# Altium footprint library RHD2000_eval_board.PCBLIB: 44 footprints (part 2 of 3)
Each footprint in its own frame and in the unit in brackets; x right, y up, seen from the top. Pads: shape width x height; smd on the part's side, far side on the other; paste and mask are expansions set on the pad; w line width, h text height; cw(c..) or ccw(c..) is an arc to the next point about the centre after c.
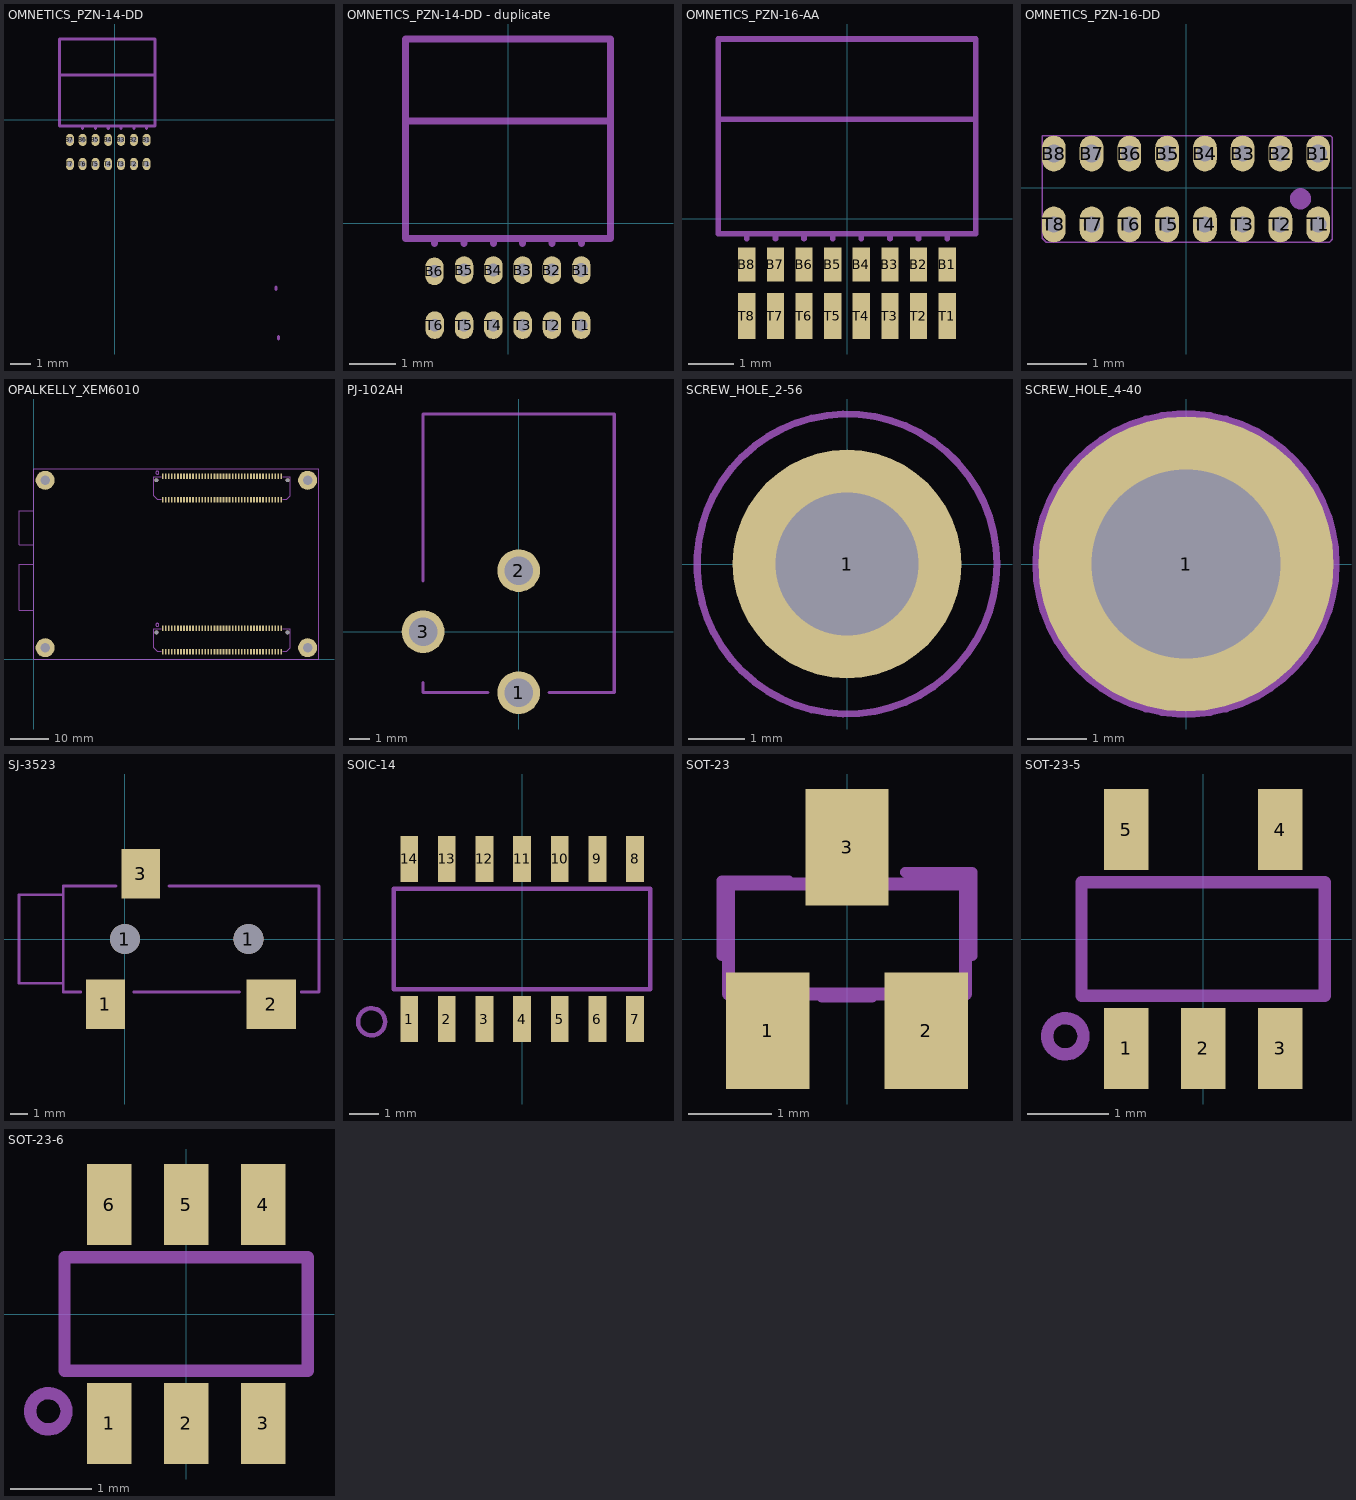
[diagram p1: the footprints below, top view; thin cyan lines are the x and y axes]

## OMNETICS_PZN-14-DD [mm]
pads (14):
  oval 0.4x0.6 hole 0.3: B1(1.587,-1.016) B7(-2.222,-1.016)
  oval 0.4x0.6 hole 0.275: B2(0.953,-1.016) B3(0.318,-1.016) B4(-0.318,-1.016) B5(-0.953,-1.016) B6(-1.587,-1.016) T1(1.587,-2.209) T2(0.953,-2.209) T3(0.318,-2.209) T4(-0.318,-2.209) T5(-0.953,-2.209) T6(-1.587,-2.209) T7(-2.222,-2.209)
Mechanical 22:
  lines w0.152: -2.741,-0.33 -1.806,-0.33 -1.171,-0.33 -0.536,-0.33 0.099,-0.33 0.734,-0.33 1.369,-0.33 2.004,-0.33 2.004,2.21 ; -2.741,-0.322 -2.741,2.218 -2.741,3.996 ; -2.741,2.21 2.004,2.21 ; -2.741,3.988 -1.555,3.988 0.818,3.988 2.004,3.988 2.004,2.21 ; -1.587,-0.445 -1.587,-0.33 ; -0.953,-0.445 -0.953,-0.33 ; -0.318,-0.445 -0.318,-0.33 ; 0.318,-0.445 0.318,-0.33 ; 0.953,-0.445 0.953,-0.33 ; 1.587,-0.445 1.587,-0.33 ; 8.018,-8.435 8.018,-8.321 ; 8.141,-10.896 8.141,-10.782
  text ".Designator" at -1.071,1.023 h0.15
3D body: height 0.25, standoff 0, extent -0.219,3.988 -0.219,3.988
3D body "omnetics_pzn16_dd.STEP": height 2.5, standoff -0.5, extent -2.741,-2.282 2.119,4.278
3D body: height 0.25, standoff 0, extent -2.03,-0.568 -2.03,-0.568
3D body: height 0.25, standoff 0, extent 0.673,-0.934 0.673,-0.934
3D body: height 0.25, standoff 0, extent 0.673,-0.934 0.673,-0.934
3D body: height 0.25, standoff 0, extent 0.292,-1.251 0.292,-1.251
3D body: height 0.25, standoff 0, extent 1.586,-1.418 1.586,-1.418
3D body: height 0.25, standoff 0, extent 1.261,-1.299 1.261,-1.299
3D body: height 0.25, standoff 0, extent -0.334,-1.362 -0.334,-1.362

## OMNETICS_PZN-14-DD - duplicate [mm]
pads (12):
  oval 0.4x0.6 hole 0.3: B1(1.587,-1.016)
  oval 0.4x0.6 hole 0.275: B2(0.953,-1.016) B3(0.318,-1.016) B4(-0.318,-1.016) B5(-0.953,-1.016) B6(-1.592,-1.044) T1(1.587,-2.209) T2(0.953,-2.209) T3(0.318,-2.209) T4(-0.318,-2.209) T5(-0.953,-2.209) T6(-1.587,-2.209)
Mechanical 22:
  lines w0.152: -1.587,-0.445 -1.587,-0.33 ; -0.953,-0.445 -0.953,-0.33 ; -0.318,-0.445 -0.318,-0.33 ; 0.318,-0.445 0.318,-0.33 ; 0.953,-0.445 0.953,-0.33 ; 1.587,-0.445 1.587,-0.33 ; -2.222,2.21 -2.222,-0.33 -1.587,-0.33 ; -2.222,2.21 -2.222,3.988 2.222,3.988 2.222,2.21 ; -2.222,2.21 2.222,2.21 ; -1.587,-0.33 -0.953,-0.33 ; -0.953,-0.33 -0.318,-0.33 ; -0.318,-0.33 0.318,-0.33 ; 0.318,-0.33 0.953,-0.33 ; 0.953,-0.33 1.587,-0.33 ; 1.587,-0.33 2.222,-0.33 2.222,2.21
  text ".Designator" at -0.373,1.036 h0.15
3D body: height 0.25, standoff 0, extent -0.334,-1.362 -0.334,-1.362
3D body: height 0.25, standoff 0, extent 1.261,-1.299 1.261,-1.299
3D body: height 0.25, standoff 0, extent 1.586,-1.418 1.586,-1.418
3D body: height 0.25, standoff 0, extent 0.292,-1.251 0.292,-1.251
3D body: height 0.25, standoff 0, extent 0.673,-0.934 0.673,-0.934
3D body: height 0.25, standoff 0, extent 0.673,-0.934 0.673,-0.934
3D body: height 0.25, standoff 0, extent -2.03,-0.568 -2.03,-0.568
3D body "omnetics_pzn16_dd.STEP": height 2.5, standoff -0.5, extent -2.741,-2.282 2.119,4.278
3D body: height 0.25, standoff 0, extent 0,3.988 0,3.988

## OMNETICS_PZN-16-AA [mil]
pads (16):
  rect 15x30 smd: B1(87.5,-40) B2(62.5,-40) B3(37.5,-40) B4(12.5,-40) B5(-12.5,-40) B6(-37.5,-40) B7(-62.5,-40) B8(-87.5,-40)
  rect 15x40 smd: T1(87.5,-85) T2(62.5,-85) T3(37.5,-85) T4(12.5,-85) T5(-12.5,-85) T6(-37.5,-85) T7(-62.5,-85) T8(-87.5,-85)
Mechanical 22:
  lines w5: -87.5,-17.5 -87.5,-13 ; -62.5,-17.5 -62.5,-13 ; -37.5,-17.5 -37.5,-13 ; -12.5,-17.5 -12.5,-13 ; 12.5,-17.5 12.5,-13 ; 37.5,-17.5 37.5,-13 ; 62.5,-17.5 62.5,-13 ; 87.5,-17.5 87.5,-13 ; -112.5,87 -112.5,-13 -87.5,-13 ; -112.5,87 -112.5,157 112.5,157 112.5,87 ; -112.5,87 112.5,87 ; -87.5,-13 -62.5,-13 ; -62.5,-13 -37.5,-13 ; -37.5,-13 -12.5,-13 ; -12.5,-13 12.5,-13 ; 12.5,-13 37.5,-13 ; 37.5,-13 62.5,-13 ; 62.5,-13 87.5,-13 ; 87.5,-13 112.5,-13 112.5,87
  text ".Designator" at -28.93,16.44 h6

## OMNETICS_PZN-16-DD [mm]
pads (16):
  oval 0.4x0.6 hole 0.3 mask+0.05: B1(2.219,0.571) B7(-1.591,0.571) B8(-2.226,0.571)
  oval 0.4x0.6 hole 0.275 mask+0.05: B2(1.584,0.571) B3(0.949,0.571) B4(0.314,0.571) B5(-0.321,0.571) B6(-0.956,0.571) T1(2.219,-0.622) T2(1.584,-0.622) T3(0.949,-0.622) T4(0.314,-0.622) T5(-0.321,-0.622) T6(-0.956,-0.622) T7(-1.591,-0.622) T8(-2.226,-0.622)
Mechanical 22:
  circle w0.254: c1.922,-0.19 r0.051
  lines w0.025: -2.419,-0.854 -2.354,-0.919 2.409,-0.919 2.457,-0.872 2.457,0.842 2.427,0.872 -2.419,0.872 -2.419,-0.854
  text ".Designator" at -0.574,-0.083 h0.15
3D body: height 0.25, standoff 0, extent 1.304,0.654 1.304,0.654
3D body: height 0.25, standoff 0, extent 1.304,0.654 1.304,0.654
3D body: height 0.25, standoff 0, extent 0.923,0.336 0.923,0.336
3D body: height 0.25, standoff 0, extent 1.892,0.288 1.892,0.288
3D body: height 0.25, standoff 0, extent 0.297,0.225 0.297,0.225
3D body: height 0.25, standoff 0, extent 2.218,0.169 2.218,0.169
3D body: height 0.25, standoff 0, extent -1.399,1.019 -1.399,1.019

## OPALKELLY_XEM6010 [mm]
pads (168):
  round 1.016 hole 1.016 unplated: 1(32.261,7.032) 1(32.261,47.032) 1(66.739,7.032) 1(66.739,47.032)
  round 5 / inner round 1.524 / far side round 5 hole 2.5: HOLE_NC_1(3,3) HOLE_NC_2(3,47) HOLE_NC_3(72,3) HOLE_NC_4(72,47)
  rect 0.457x1.448 smd: JP2-1(33.9,8.086) JP2-2(33.9,1.914) JP2-3(34.7,8.086) JP2-4(34.7,1.914) JP2-5(35.5,8.086) JP2-6(35.5,1.914) JP2-7(36.3,8.086) JP2-8(36.3,1.914) JP2-9(37.1,8.086) JP2-10(37.1,1.914) JP2-11(37.9,8.086) JP2-12(37.9,1.914) JP2-13(38.7,8.086) JP2-14(38.7,1.914) JP2-15(39.5,8.086) JP2-16(39.5,1.914) JP2-17(40.3,8.086) JP2-18(40.3,1.914) JP2-19(41.1,8.086) JP2-20(41.1,1.914) JP2-21(41.9,8.086) JP2-22(41.9,1.914) JP2-23(42.7,8.086) JP2-24(42.7,1.914) JP2-25(43.5,8.086) JP2-26(43.5,1.914) JP2-27(44.3,8.086) JP2-28(44.3,1.914) JP2-29(45.1,8.086) JP2-30(45.1,1.914) JP2-31(45.9,8.086) JP2-32(45.9,1.914) JP2-33(46.7,8.086) JP2-34(46.7,1.914) JP2-35(47.5,8.086) JP2-36(47.5,1.914) JP2-37(48.3,8.086) JP2-38(48.3,1.914) JP2-39(49.1,8.086) JP2-40(49.1,1.914) JP2-41(49.9,8.086) JP2-42(49.9,1.914) JP2-43(50.7,8.086) JP2-44(50.7,1.914) JP2-45(51.5,8.086) JP2-46(51.5,1.914) JP2-47(52.3,8.086) JP2-48(52.3,1.914) JP2-49(53.1,8.086) JP2-50(53.1,1.914) JP2-51(53.9,8.086) JP2-52(53.9,1.914) JP2-53(54.7,8.086) JP2-54(54.7,1.914) JP2-55(55.5,8.086) JP2-56(55.5,1.914) JP2-57(56.3,8.086) JP2-58(56.3,1.914) JP2-59(57.1,8.086) JP2-60(57.1,1.914) JP2-61(57.9,8.086) JP2-62(57.9,1.914) JP2-63(58.7,8.086) JP2-64(58.7,1.914) JP2-65(59.5,8.086) JP2-66(59.5,1.914) JP2-67(60.3,8.086) JP2-68(60.3,1.914) JP2-69(61.1,8.086) JP2-70(61.1,1.914) JP2-71(61.9,8.086) JP2-72(61.9,1.914) JP2-73(62.7,8.086) JP2-74(62.7,1.914) JP2-75(63.5,8.086) JP2-76(63.5,1.914) JP2-77(64.3,8.086) JP2-78(64.3,1.914) JP2-79(65.1,8.086) JP2-80(65.1,1.914) JP3-1(33.9,48.086) JP3-2(33.9,41.914) JP3-3(34.7,48.086) JP3-4(34.7,41.914) JP3-5(35.5,48.086) JP3-6(35.5,41.914) JP3-7(36.3,48.086) JP3-8(36.3,41.914) JP3-9(37.1,48.086) JP3-10(37.1,41.914) JP3-11(37.9,48.086) JP3-12(37.9,41.914) JP3-13(38.7,48.086) JP3-14(38.7,41.914) JP3-15(39.5,48.086) JP3-16(39.5,41.914) JP3-17(40.3,48.086) JP3-18(40.3,41.914) JP3-19(41.1,48.086) JP3-20(41.1,41.914) JP3-21(41.9,48.086) JP3-22(41.9,41.914) JP3-23(42.7,48.086) JP3-24(42.7,41.914) JP3-25(43.5,48.086) JP3-26(43.5,41.914) JP3-27(44.3,48.086) JP3-28(44.3,41.914) JP3-29(45.1,48.086) JP3-30(45.1,41.914) JP3-31(45.9,48.086) JP3-32(45.9,41.914) JP3-33(46.7,48.086) JP3-34(46.7,41.914) JP3-35(47.5,48.086) JP3-36(47.5,41.914) JP3-37(48.3,48.086) JP3-38(48.3,41.914) JP3-39(49.1,48.086) JP3-40(49.1,41.914) JP3-41(49.9,48.086) JP3-42(49.9,41.914) JP3-43(50.7,48.086) JP3-44(50.7,41.914) JP3-45(51.5,48.086) JP3-46(51.5,41.914) JP3-47(52.3,48.086) JP3-48(52.3,41.914) JP3-49(53.1,48.086) JP3-50(53.1,41.914) JP3-51(53.9,48.086) JP3-52(53.9,41.914) JP3-53(54.7,48.086) JP3-54(54.7,41.914) JP3-55(55.5,48.086) JP3-56(55.5,41.914) JP3-57(56.3,48.086) JP3-58(56.3,41.914) JP3-59(57.1,48.086) JP3-60(57.1,41.914) JP3-61(57.9,48.086) JP3-62(57.9,41.914) JP3-63(58.7,48.086) JP3-64(58.7,41.914) JP3-65(59.5,48.086) JP3-66(59.5,41.914) JP3-67(60.3,48.086) JP3-68(60.3,41.914) JP3-69(61.1,48.086) JP3-70(61.1,41.914) JP3-71(61.9,48.086) JP3-72(61.9,41.914) JP3-73(62.7,48.086) JP3-74(62.7,41.914) JP3-75(63.5,48.086) JP3-76(63.5,41.914) JP3-77(64.3,48.086) JP3-78(64.3,41.914) JP3-79(65.1,48.086) JP3-80(65.1,41.914)
Mechanical 22:
  circle w0.2: c32.5,9 r0.4
  circle w0.2: c32.5,49 r0.4
  lines w0.2: 33.5,2 32.5,2 31.5,3 31.5,8 33.5,8 ; 33.5,42 32.5,42 31.5,43 31.5,48 33.5,48 ; 65.5,2 66.5,2 67.5,3 67.5,8 65.5,8 ; 65.5,42 66.5,42 67.5,43 67.5,48 65.5,48 ; 0,12.9 -3.87,12.9 -3.87,24.9 0,24.9 ; 0,12.9 0,0 75,0 75,50 0,50 0,39 ; 0,12.9 0,24.9 ; 0,24.9 0,30 ; 0,30 -3.87,30 -3.87,39 0,39 ; 0,30 0,39

## PCBComponent_1 [mil]

## PCBComponent_1 - duplicate [mil]

## PCBComponent_1 - duplicate1 [mil]

## PJ-102AH [mm]
pads (3):
  round 2.1 / inner round 1.524 / far side round 2.1 hole 1.4: 1(0,-3) 2(0,3) 3(-4.7,0)
Mechanical 22:
  lines w0.152: -4.7,-2.5 -4.7,-3 -1.5,-3 ; -4.7,2.5 -4.7,10.7 4.7,10.7 4.7,-3 1.5,-3

## SCREW_HOLE_2-56 [mil]
pads (1):
  round 160 / inner round 60 / far side round 160 hole 100: 1(0,0)
Mechanical 22:
  circle w5: c0,0 r105

## SCREW_HOLE_4-40 [mm]
pads (1):
  round 5 / inner round 1.524 / far side round 5 hole 3.2: 1(0,0)
Mechanical 22:
  circle w0.127: c0,0 r2.54

## SJ-3523 [mm]
pads (5):
  rect 2.2x2.8 smd: 1(-1.1,-3.7) 3(0.9,3.7)
  round 1.7 hole 1.7 unplated: 1(0,0) 1(7,0)
  rect 2.8x2.8 smd: 2(8.3,-3.7)
Mechanical 22:
  lines w0.152: -2.5,-3 -3.5,-3 -3.5,-2.5 ; -0.5,3 -3.5,3 -3.5,2.5 ; 0.5,-3 6.5,-3 ; 2.5,3 11,3 11,-3 10,-3 ; -3.5,-2.5 -3.5,2.5 ; -3.5,-2.5 -6,-2.5 -6,2.5 -3.5,2.5

## SOIC-14 [mil]
pads (14):
  rect 23.62x61.02 smd: 1(-150,-106.3) 2(-100,-106.3) 3(-50,-106.3) 4(0,-106.3) 5(50,-106.3) 6(100,-106.3) 7(150,-106.3) 8(150,106.3) 9(100,106.3) 10(50,106.3) 11(0,106.3) 12(-50,106.3) 13(-100,106.3) 14(-150,106.3)
Mechanical 22:
  circle w6: c-200,-110 r18
  lines w6: -170.28,-66.93 170.28,-66.93 170.28,66.93 -170.28,66.93 -170.28,-66.93

## SOT-23 [mm]
pads (3):
  rect 1x1.4 smd: 1(-0.95,-1.1) 2(0.95,-1.1) 3(0,1.1)
Mechanical 8:
  region: -1.168,-1.295 -1.168,-0.711 -0.711,-0.711 -0.711,-1.295
  region: 0.711,-1.295 0.711,-0.711 1.168,-0.711 1.168,-1.295
  region: -0.229,0.711 -0.229,1.295 0.229,1.295 0.229,0.711
  lines w0.152: -1.422,-0.66 -1.422,0.66 1.422,0.66 1.422,-0.66 -1.422,-0.66
Mechanical 22:
  lines w0.127: -1.5,-0.2 -1.5,0.7 -0.7,0.7 ; -0.3,-0.7 0.3,-0.7 ; 0.7,0.8 1.5,0.8 1.5,-0.2

## SOT-23-5 [mm]
pads (5):
  rect 0.55x1 smd: 1(-0.95,-1.35) 2(0,-1.35) 3(0.95,-1.35) 4(0.95,1.35) 5(-0.95,1.35)
Mechanical 22:
  circle w0.152: c-1.7,-1.2 r0.224
  lines w0.152: -1.5,-0.7 1.5,-0.7 1.5,0.7 -1.5,0.7 -1.5,-0.7

## SOT-23-6 [mm]
pads (6):
  rect 0.55x1 smd: 1(-0.95,-1.35) 2(0,-1.35) 3(0.95,-1.35) 4(0.95,1.35) 5(0,1.35) 6(-0.95,1.35)
Mechanical 22:
  circle w0.152: c-1.7,-1.2 r0.224
  lines w0.152: -1.5,-0.7 1.5,-0.7 1.5,0.7 -1.5,0.7 -1.5,-0.7